# Altium footprint library 527461671.PcbLib: 1 footprints
Each footprint in its own frame and in the unit in brackets; x right, y up, seen from the top. Pads: shape width x height; smd on the part's side, far side on the other; paste and mask are expansions set on the pad; w line width, h text height; cw(c..) or ccw(c..) is an arc to the next point about the centre after c.
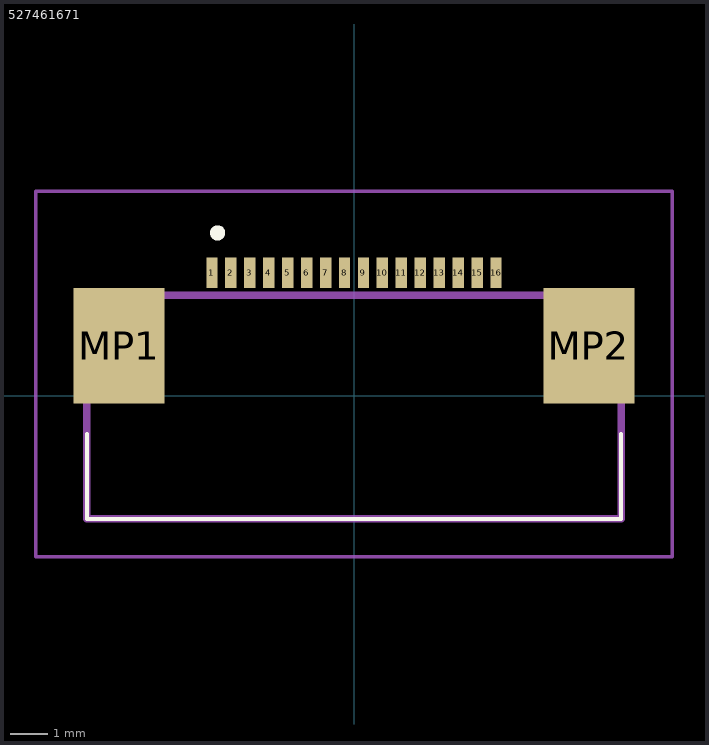
[diagram p0: the footprint, top view; thin cyan lines are the x and y axes]

## 527461671 [mm]
pads (18):
  rect 0.3x0.8 smd: 1(-3.75,3.25) 2(-3.25,3.25) 3(-2.75,3.25) 4(-2.25,3.25) 5(-1.75,3.25) 6(-1.25,3.25) 7(-0.75,3.25) 8(-0.25,3.25) 9(0.25,3.25) 10(0.75,3.25) 11(1.25,3.25) 12(1.75,3.25) 13(2.25,3.25) 14(2.75,3.25) 15(3.25,3.25) 16(3.75,3.25)
  rect 2.4x3.05 smd: MP1(-6.2,1.325) MP2(6.2,1.325)
Top Overlay:
  lines w0.1: -7.05,-1 -7.05,-3.25 7,-3.25 7.05,-3.25 7.05,-1.5 7.05,-1
  lines w0.2: -3.6,4.2 -3.6,4.2 ; -3.6,4.2 ccw(c-3.6,4.3) -3.6,4.4 ; -3.6,4.2 cw(c-3.6,4.3) -3.6,4.4 ; -3.6,4.4 -3.6,4.4
Mechanical 15:
  lines w0.2: -7.05,-3.25 7.05,-3.25 7.05,2.65 -7.05,2.65 -7.05,-3.25
Mechanical 20:
  lines w0.1: -8.4,-4.25 8.4,-4.25 8.4,5.4 -8.4,5.4 -8.4,-4.25